# Altium integrated library A000066.IntLib: 1 symbol
Pins are listed as number, name and electrical type; pins without a type are passive.

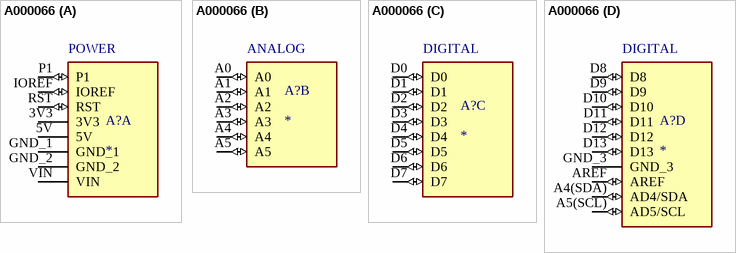
[diagram p0: symbol A000066]

## A000066
designator A?
Microcontroller board based on the ATmega328P; MP: ARDUINO UNO REV3 DEVELOPMENT BOARD; MF: Arduino; Price: None; Availability: Not in stock; Package: None; Value: *; SnapEDA_Link: https://www.snapeda.com/parts/ARDUINO%20UNO%20REV3%20DEVELOPMENT%20BOARD/Arduino/view-part/?ref=snap; Check_prices: https://www.snapeda.com/parts/ARDUINO%20UNO%20REV3%20DEVELOPMENT%20BOARD/Arduino/view-part/?ref=eda
footprint ARDUINO_A000066; pin to pad A4(SDA)>A4(SDA
part A pins: 3V3 (power), 5V (power), GND_1 (power), GND_2 (power), IOREF (io), P1 (io), RST (io), VIN (power)
part B pins: A0 (io), A1 (io), A2 (io), A3 (io), A4 (io), A5 (io)
part C pins: D0 (io), D1 (io), D2 (io), D3 (io), D4 (io), D5 (io), D6 (io), D7 (io)
part D pins: A4(SDA) AD4/SDA (io), A5(SCL) AD5/SCL (io), AREF (io), D8 (io), D9 (io), D10 (io), D11 (io), D12 (io), D13 (io), GND_3 (power)
part A text: POWER
part B text: ANALOG
part C text: DIGITAL
part D text: DIGITAL